# Altium schematic symbol library 02013D101KAT2A.SchLib: 1 symbol
Pins are listed as number, name and electrical type; pins without a type are passive.

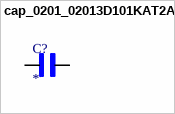
[diagram p0: symbol cap_0201_02013D101KAT2A]

## cap_0201_02013D101KAT2A
designator C?
cap 0201 (0603 Metric); MF: AVX; MP: 02013D101KAT2A; SnapEDA_Link: https://www.snapeda.com/parts/02013D101KAT2A/AVX/view-part/?ref=snap; Package: 0603 AVX; Value: *; Check_prices: https://www.snapeda.com/parts/02013D101KAT2A/AVX/view-part/?ref=eda
footprint CAPC0603X33N
pins: 1, 2